# Altium integrated library Linear Technology Operational Amplifiers (LT2000-LT6000).IntLib: 1710 symbols (part 42 of 75)
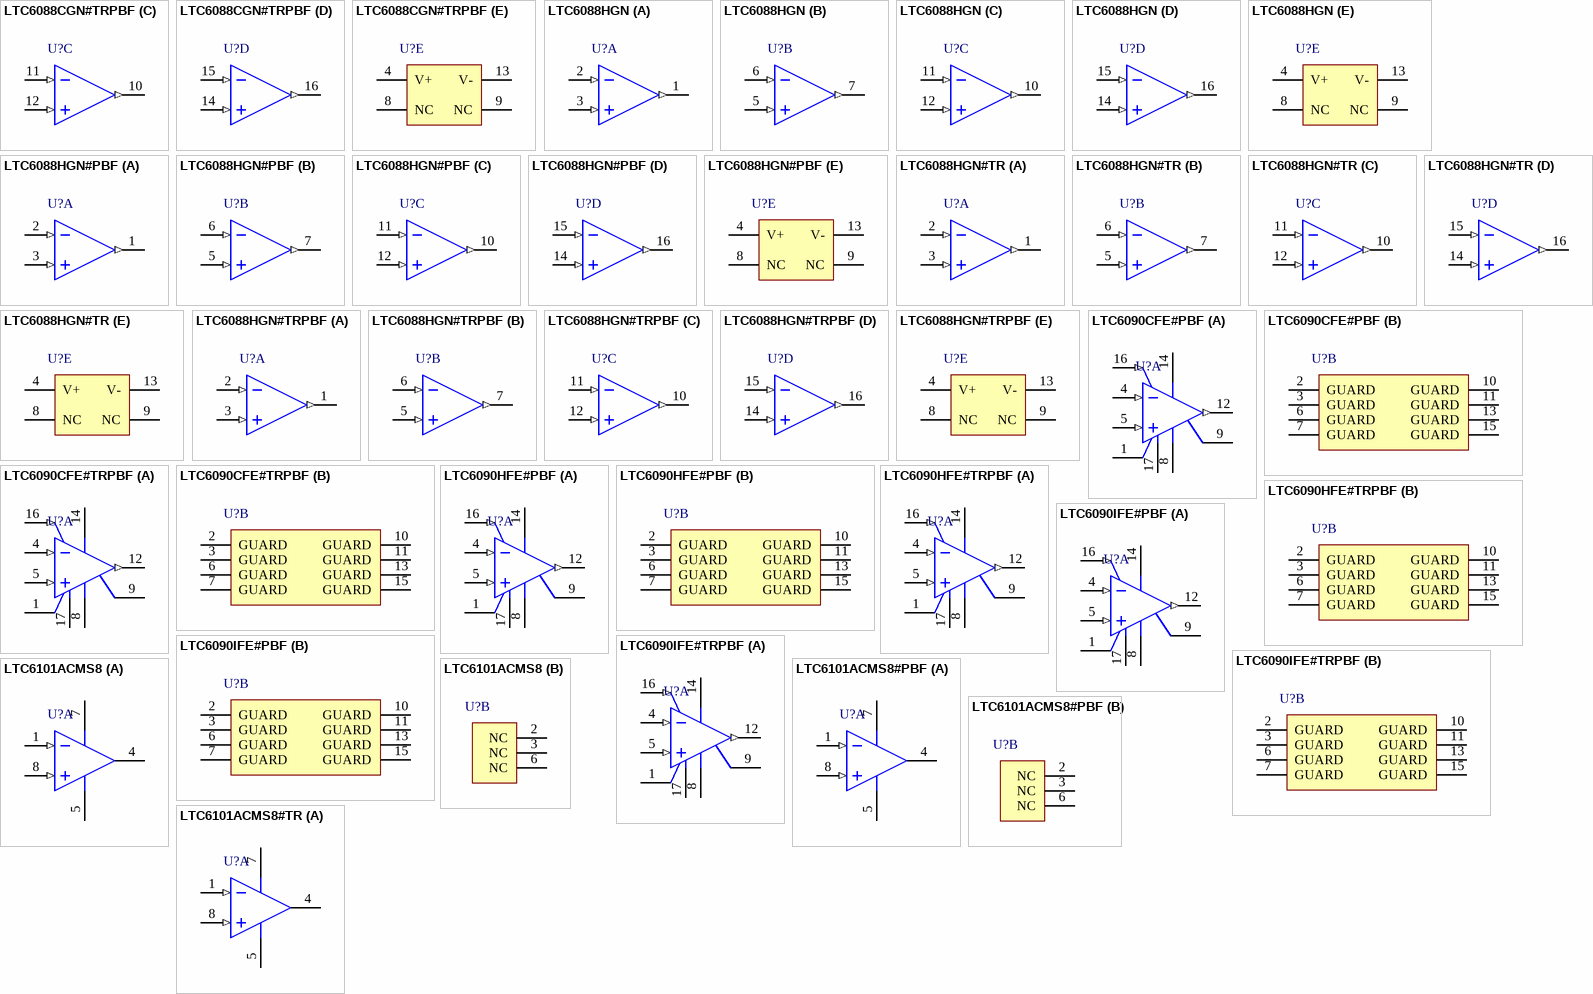
[diagram p121: symbols LTC6088CGN#TRPBF to LTC6101ACMS8#TR]

## LTC6090IFE#TRPBF
designator U?
Single Channel, Picoamp Input Current, CMOS Operational Amplifier, RRO, 10 MHz Typical GBW, 19 V/us Typical SR, 9.5 to 140 V, 16-Pin SOP (FE-16), Industrial, Pb-Free, Reel; Linear Technology Part Number: LTC6090; Manufacturer: Linear Technology; PartNumber: LTC6090IFE#TRPBF; PackageVersion: Rev I; PackageReference: LT-FE-16-EPV-BA; PackageDescription: 16-Lead Plastic TSSOP, Body 5.00 x 4.40 mm, Pitch 0.65 mm; Supplier 1: Digi-Key; Supplier Part Number 1: LTC6090IFE#TRPBF-ND; Supplier 2: Newark; Supplier Part Number 2: 48W6438; Packing: Reel; RoHS: Pb-Free; Mounting Technology: Surface Mount; ComponentLink1Description: Manufacturer URL; ComponentLink1URL: http://www.linear.com/; ComponentLink2Description: Datasheet; ComponentLink2URL: http://cds.linear.com/docs/en/datasheet/6090f.pdf; ComponentLink3Description: Package Specification; ComponentLink3URL: http://cds.linear.com/docs/en/packaging/05081663_I_FE16%28BA%29.pdf
footprint LT-FE-16-EPV-BA_N (SOP, 16-Leads, Body 5x4.4mm, Pitch 0.65mm, Thermal Pad 2.74x2.74mm, IPC Medium Density)
footprint LT-FE-16-EPV-BA_L (SOP, 16-Leads, Body 5x4.4mm, Pitch 0.65mm, Thermal Pad 2.74x2.74mm, IPC High Density)
footprint LT-FE-16-EPV-BA_M (SOP, 16-Leads, Body 5x4.4mm, Pitch 0.65mm, Thermal Pad 2.74x2.74mm, IPC Low Density)
part A pins: 1 COM "COM Pin is used to interface O\D\ and T\F\L\A\G\ pins to voltage control circuits. Tie this pin to the low voltage ground, or let it float.", 4 -IN (in) "Inverting Input Pin. Input common mode range is V- + 3V to V+ - 3V. Do not exceed absolute maximum voltage range.", 5 +IN (in) "Noninverting Input Pin. Input common mode range is V- + 3V to V+ - 3V. Do not exceed absolute maximum voltage range.", 8 V- (power) "Negative Supply Pin. Connect to V- Only. To achieve low thermal resistance connect this pin to the V- power plane. The V- power plane connection removes heat from the device and should be electrically isolated from all other (See Datasheet)", 9 ~{TFLAG} (oc) "Temperature Flag Pin. The T\F\L\A\G\ pin is an open drain output that sinks current when the die temperature exceeds 145 degreesC.", 12 OUT (out) "Output Pin. If this rail-to-rail output goes below V- , the ESD protection diode will forward bias. If OUT goes above V+, then output device diodes will forward bias. Avoid forward biasing the diodes on the OUT pin. (See Datasheet)", 14 V+ (power) "Positive Supply Pin.", 16 ~{OD} (in) "Output Disable Pin. Active low input disables the output stage. If left open, an internal pull-up resistor enables the amplifier. Input voltage levels are referred to the COM pin.", 17 EP (power) "Exposed Pad ground."
part B pins: 2 GUARD "Guard pins increase clearance and creepage between other pins. Pins 3 and 6 can be used to build guard rings around the inputs", 3 GUARD "Guard pins increase clearance and creepage between other pins. Pins 3 and 6 can be used to build guard rings around the inputs", 6 GUARD "Guard pins increase clearance and creepage between other pins. Pins 3 and 6 can be used to build guard rings around the inputs", 7 GUARD "Guard pins increase clearance and creepage between other pins. Pins 3 and 6 can be used to build guard rings around the inputs", 10 GUARD "Guard pins increase clearance and creepage between other pins. Pins 3 and 6 can be used to build guard rings around the inputs", 11 GUARD "Guard pins increase clearance and creepage between other pins. Pins 3 and 6 can be used to build guard rings around the inputs", 13 GUARD "Guard pins increase clearance and creepage between other pins. Pins 3 and 6 can be used to build guard rings around the inputs", 15 GUARD "Guard pins increase clearance and creepage between other pins. Pins 3 and 6 can be used to build guard rings around the inputs"

## LTC6101ACMS8
designator U?
Single Channel, High Voltage, High-Side Current Sense Operational Amplifier, 0.2 MHz Typical GBW, 4 to 60 V, 8-Pin SOP (MS8-8), Commercial; Linear Technology Part Number: LTC6101; Manufacturer: Linear Technology; PartNumber: LTC6101ACMS8; Channels (#): 1; GBW (MHz) Typical: 0.2; Is (mA) Typical: 0.22; Vos (mV) Typical: 0.15; Vs Max (V): 60; Vs Min (V): 4; DatasheetVersion: Rev. H; PackageVersion: Rev G; PackageReference: LT-MS8-8; PackageDescription: 8-Lead Plastic Small Outline, Body 3.9 x 4.9 mm, Pitch 1.27 mm; Type: CSA; Mounting Technology: Surface Mount; ComponentLink1Description: Manufacturer URL; ComponentLink1URL: http://www.linear.com/; ComponentLink2Description: Datasheet; ComponentLink2URL: http://cds.linear.com/docs/en/datasheet/6101fh.pdf; ComponentLink3Description: Package Specification; ComponentLink3URL: http://cds.linear.com/docs/en/packaging/05081610_G_SO8.pdf
footprint LT-MS8-8_N (SOP, 8-Leads, Body 3x3mm, Pitch 0.65mm, IPC Medium Density)
footprint LT-MS8-8_L (SOP, 8-Leads, Body 3x3mm, Pitch 0.65mm, IPC High Density)
footprint LT-MS8-8_M (SOP, 8-Leads, Body 3x3mm, Pitch 0.65mm, IPC Low Density)
part A pins: 1 -IN (in) "The internal sense ampli?er will drive IN- to the same  potential as IN+. A resistor (RIN) tied from V+ to IN- sets  the output current IOUT = VSENSE/RIN. VSENSE is the voltage  developed across the external RSENSE.", 4 OUT (oe) "Current Output. OUT will source a current that is  proportional to the sense voltage into an external resistor.", 5 V- (power) "Negative Supply (or Ground for Single-Supply  Operation).", 7 V+ (power) "Positive Supply Pin. Supply current is drawn through  this pin.  The circuit may be con? gured so that the  LTC6101 supply current is or is not monitored along  with the system load current. To monitor only system load (See Datasheet)", 8 +IN (in) "Must be tied to the system load end of the sense  resistor, either directly or through a resistor."
part B pins: 2 NC, 3 NC, 6 NC

## LTC6101ACMS8#PBF
designator U?
Single Channel, High Voltage, High-Side Current Sense Operational Amplifier, 0.2 MHz Typical GBW, 4 to 60 V, 8-Pin SOP (MS8-8), Commercial, Pb-Free; Linear Technology Part Number: LTC6101; Manufacturer: Linear Technology; PartNumber: LTC6101ACMS8#PBF; Channels (#): 1; GBW (MHz) Typical: 0.2; Is (mA) Typical: 0.22; Vos (mV) Typical: 0.15; Vs Max (V): 60; Vs Min (V): 4; DatasheetVersion: Rev. H; PackageVersion: Rev G; PackageReference: LT-MS8-8; PackageDescription: 8-Lead Plastic Small Outline, Body 3.9 x 4.9 mm, Pitch 1.27 mm; Supplier 1: Digi-Key; Supplier Part Number 1: LTC6101ACMS8#PBF-ND; RoHS: Pb-Free; Type: CSA; Mounting Technology: Surface Mount; ComponentLink1Description: Manufacturer URL; ComponentLink1URL: http://www.linear.com/; ComponentLink2Description: Datasheet; ComponentLink2URL: http://cds.linear.com/docs/en/datasheet/6101fh.pdf; ComponentLink3Description: Package Specification; ComponentLink3URL: http://cds.linear.com/docs/en/packaging/05081610_G_SO8.pdf
footprint LT-MS8-8_N (SOP, 8-Leads, Body 3x3mm, Pitch 0.65mm, IPC Medium Density)
footprint LT-MS8-8_L (SOP, 8-Leads, Body 3x3mm, Pitch 0.65mm, IPC High Density)
footprint LT-MS8-8_M (SOP, 8-Leads, Body 3x3mm, Pitch 0.65mm, IPC Low Density)
part A pins: 1 -IN (in) "The internal sense ampli?er will drive IN- to the same  potential as IN+. A resistor (RIN) tied from V+ to IN- sets  the output current IOUT = VSENSE/RIN. VSENSE is the voltage  developed across the external RSENSE.", 4 OUT (oe) "Current Output. OUT will source a current that is  proportional to the sense voltage into an external resistor.", 5 V- (power) "Negative Supply (or Ground for Single-Supply  Operation).", 7 V+ (power) "Positive Supply Pin. Supply current is drawn through  this pin.  The circuit may be con? gured so that the  LTC6101 supply current is or is not monitored along  with the system load current. To monitor only system load (See Datasheet)", 8 +IN (in) "Must be tied to the system load end of the sense  resistor, either directly or through a resistor."
part B pins: 2 NC, 3 NC, 6 NC

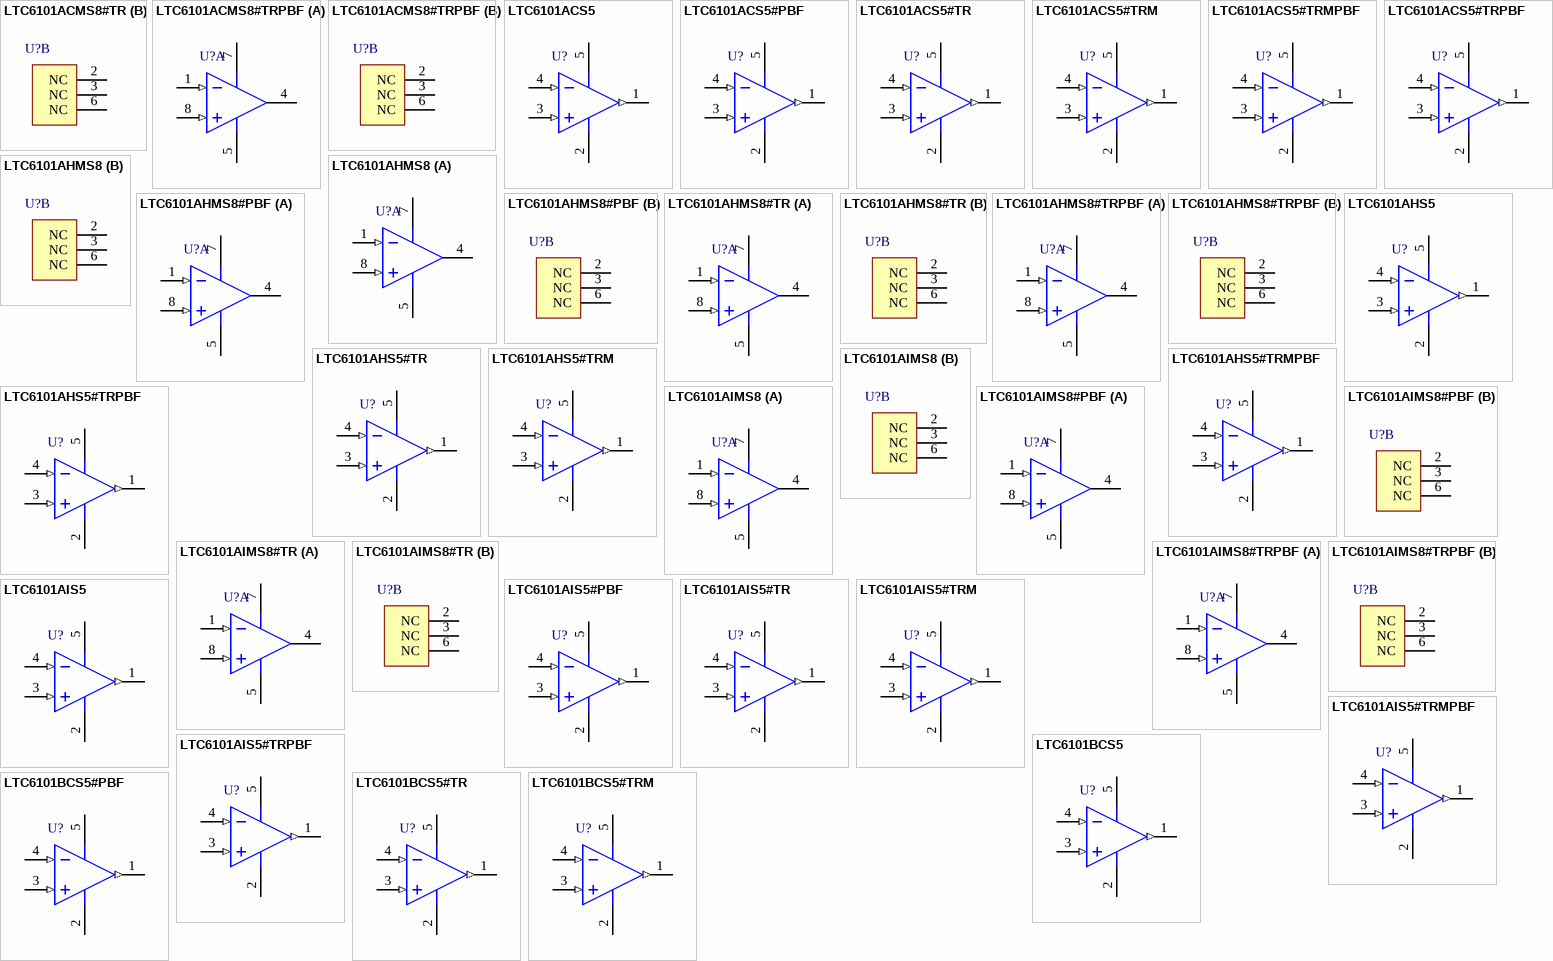
[diagram p57: symbols LTC6101ACMS8#TR to LTC6101BCS5#TRM]

## LTC6101ACMS8#TR
designator U?
Single Channel, High Voltage, High-Side Current Sense Operational Amplifier, 0.2 MHz Typical GBW, 4 to 60 V, 8-Pin SOP (MS8-8), Commercial, Reel; Linear Technology Part Number: LTC6101; Manufacturer: Linear Technology; PartNumber: LTC6101ACMS8#TR; Channels (#): 1; GBW (MHz) Typical: 0.2; Is (mA) Typical: 0.22; Vos (mV) Typical: 0.15; Vs Max (V): 60; Vs Min (V): 4; DatasheetVersion: Rev. H; PackageVersion: Rev G; PackageReference: LT-MS8-8; PackageDescription: 8-Lead Plastic Small Outline, Body 3.9 x 4.9 mm, Pitch 1.27 mm; Packing: Reel; Type: CSA; Mounting Technology: Surface Mount; ComponentLink1Description: Manufacturer URL; ComponentLink1URL: http://www.linear.com/; ComponentLink2Description: Datasheet; ComponentLink2URL: http://cds.linear.com/docs/en/datasheet/6101fh.pdf; ComponentLink3Description: Package Specification; ComponentLink3URL: http://cds.linear.com/docs/en/packaging/05081610_G_SO8.pdf
footprint LT-MS8-8_N (SOP, 8-Leads, Body 3x3mm, Pitch 0.65mm, IPC Medium Density)
footprint LT-MS8-8_L (SOP, 8-Leads, Body 3x3mm, Pitch 0.65mm, IPC High Density)
footprint LT-MS8-8_M (SOP, 8-Leads, Body 3x3mm, Pitch 0.65mm, IPC Low Density)
part A pins: 1 -IN (in) "The internal sense ampli?er will drive IN- to the same  potential as IN+. A resistor (RIN) tied from V+ to IN- sets  the output current IOUT = VSENSE/RIN. VSENSE is the voltage  developed across the external RSENSE.", 4 OUT (oe) "Current Output. OUT will source a current that is  proportional to the sense voltage into an external resistor.", 5 V- (power) "Negative Supply (or Ground for Single-Supply  Operation).", 7 V+ (power) "Positive Supply Pin. Supply current is drawn through  this pin.  The circuit may be con? gured so that the  LTC6101 supply current is or is not monitored along  with the system load current. To monitor only system load (See Datasheet)", 8 +IN (in) "Must be tied to the system load end of the sense  resistor, either directly or through a resistor."
part B pins: 2 NC, 3 NC, 6 NC

## LTC6101ACMS8#TRPBF
designator U?
Single Channel, High Voltage, High-Side Current Sense Operational Amplifier, 0.2 MHz Typical GBW, 4 to 60 V, 8-Pin SOP (MS8-8), Commercial, Pb-Free, Reel; Linear Technology Part Number: LTC6101; Manufacturer: Linear Technology; PartNumber: LTC6101ACMS8#TRPBF; Channels (#): 1; GBW (MHz) Typical: 0.2; Is (mA) Typical: 0.22; Vos (mV) Typical: 0.15; Vs Max (V): 60; Vs Min (V): 4; DatasheetVersion: Rev. H; PackageVersion: Rev G; PackageReference: LT-MS8-8; PackageDescription: 8-Lead Plastic Small Outline, Body 3.9 x 4.9 mm, Pitch 1.27 mm; Supplier 1: Digi-Key; Supplier Part Number 1: LTC6101ACMS8#TRPBF-ND; Packing: Reel; RoHS: Pb-Free; Type: CSA; Mounting Technology: Surface Mount; ComponentLink1Description: Manufacturer URL; ComponentLink1URL: http://www.linear.com/; ComponentLink2Description: Datasheet; ComponentLink2URL: http://cds.linear.com/docs/en/datasheet/6101fh.pdf; ComponentLink3Description: Package Specification; ComponentLink3URL: http://cds.linear.com/docs/en/packaging/05081610_G_SO8.pdf
footprint LT-MS8-8_N (SOP, 8-Leads, Body 3x3mm, Pitch 0.65mm, IPC Medium Density)
footprint LT-MS8-8_L (SOP, 8-Leads, Body 3x3mm, Pitch 0.65mm, IPC High Density)
footprint LT-MS8-8_M (SOP, 8-Leads, Body 3x3mm, Pitch 0.65mm, IPC Low Density)
part A pins: 1 -IN (in) "The internal sense ampli?er will drive IN- to the same  potential as IN+. A resistor (RIN) tied from V+ to IN- sets  the output current IOUT = VSENSE/RIN. VSENSE is the voltage  developed across the external RSENSE.", 4 OUT (oe) "Current Output. OUT will source a current that is  proportional to the sense voltage into an external resistor.", 5 V- (power) "Negative Supply (or Ground for Single-Supply  Operation).", 7 V+ (power) "Positive Supply Pin. Supply current is drawn through  this pin.  The circuit may be con? gured so that the  LTC6101 supply current is or is not monitored along  with the system load current. To monitor only system load (See Datasheet)", 8 +IN (in) "Must be tied to the system load end of the sense  resistor, either directly or through a resistor."
part B pins: 2 NC, 3 NC, 6 NC

## LTC6101ACS5
designator U?
Single Channel, High Voltage, High-Side Current Sense Operational Amplifier, 0.2 MHz Typical GBW, 4 to 60 V, 5-Pin SOT23 (S5-5), Commercial; Linear Technology Part Number: LTC6101; Manufacturer: Linear Technology; PartNumber: LTC6101ACS5; Channels (#): 1; GBW (MHz) Typical: 0.2; Is (mA) Typical: 0.22; Vos (mV) Typical: 0.15; Vs Max (V): 60; Vs Min (V): 4; DatasheetVersion: Rev. H; PackageReference: LT-S5-5-TSOT-23; PackageDescription: 5-Lead Plastic TSOT-23, Body 1.63 x 2.90 mm, Pitch 0.95 mm; Type: CSA; Mounting Technology: Surface Mount; Code_JEDEC: MO-193; ComponentLink1Description: Manufacturer URL; ComponentLink1URL: http://www.linear.com/; ComponentLink2Description: Datasheet; ComponentLink2URL: http://cds.linear.com/docs/en/datasheet/6101fh.pdf; ComponentLink3Description: Package Specification; ComponentLink3URL: http://cds.linear.com/docs/en/packaging/SOT_5_05-08-1635.pdf
footprint LT-S5-5-TSOT-23_N (SOT23, 5-Leads, Body 2.90x1.63mm, Pitch 0.95mm, IPC Medium Density)
footprint LT-S5-5-TSOT-23_L (SOT23, 5-Leads, Body 2.90x1.63mm, Pitch 0.95mm, IPC High Density)
footprint LT-S5-5-TSOT-23_M (SOT23, 5-Leads, Body 2.90x1.63mm, Pitch 0.95mm, IPC Low Density)
pins: 1 OUT (out) "Output.", 2 V- (power) "Negative Supply Voltage, Usually -5V.", 3 +IN (in) "Noninverting Input.", 4 -IN (in) "Inverting Input.", 5 V+ (power) "Positive Supply Voltage, Usually 5V."

## LTC6101ACS5#PBF
designator U?
Single Channel, High Voltage, High-Side Current Sense Operational Amplifier, 0.2 MHz Typical GBW, 4 to 60 V, 5-Pin SOT23 (S5-5), Commercial, Pb-Free; Linear Technology Part Number: LTC6101; Manufacturer: Linear Technology; PartNumber: LTC6101ACS5#PBF; Channels (#): 1; GBW (MHz) Typical: 0.2; Is (mA) Typical: 0.22; Vos (mV) Typical: 0.15; Vs Max (V): 60; Vs Min (V): 4; DatasheetVersion: Rev. H; PackageReference: LT-S5-5-TSOT-23; PackageDescription: 5-Lead Plastic TSOT-23, Body 1.63 x 2.90 mm, Pitch 0.95 mm; Supplier 1: Farnell; Supplier Part Number 1: 2294754; Supplier 2: Newark; Supplier Part Number 2: 12T9504; RoHS: Pb-Free; Type: CSA; Mounting Technology: Surface Mount; Code_JEDEC: MO-193; ComponentLink1Description: Manufacturer URL; ComponentLink1URL: http://www.linear.com/; ComponentLink2Description: Datasheet; ComponentLink2URL: http://cds.linear.com/docs/en/datasheet/6101fh.pdf; ComponentLink3Description: Package Specification; ComponentLink3URL: http://cds.linear.com/docs/en/packaging/SOT_5_05-08-1635.pdf
footprint LT-S5-5-TSOT-23_N (SOT23, 5-Leads, Body 2.90x1.63mm, Pitch 0.95mm, IPC Medium Density)
footprint LT-S5-5-TSOT-23_L (SOT23, 5-Leads, Body 2.90x1.63mm, Pitch 0.95mm, IPC High Density)
footprint LT-S5-5-TSOT-23_M (SOT23, 5-Leads, Body 2.90x1.63mm, Pitch 0.95mm, IPC Low Density)
pins: 1 OUT (out) "Output.", 2 V- (power) "Negative Supply Voltage, Usually -5V.", 3 +IN (in) "Noninverting Input.", 4 -IN (in) "Inverting Input.", 5 V+ (power) "Positive Supply Voltage, Usually 5V."

## LTC6101ACS5#TR
designator U?
Single Channel, High Voltage, High-Side Current Sense Operational Amplifier, 0.2 MHz Typical GBW, 4 to 60 V, 5-Pin SOT23 (S5-5), Commercial, Reel; Linear Technology Part Number: LTC6101; Manufacturer: Linear Technology; PartNumber: LTC6101ACS5#TR; Channels (#): 1; GBW (MHz) Typical: 0.2; Is (mA) Typical: 0.22; Vos (mV) Typical: 0.15; Vs Max (V): 60; Vs Min (V): 4; DatasheetVersion: Rev. H; PackageReference: LT-S5-5-TSOT-23; PackageDescription: 5-Lead Plastic TSOT-23, Body 1.63 x 2.90 mm, Pitch 0.95 mm; Supplier 1: Newark; Supplier Part Number 1: 56M9838; Packing: Reel; Type: CSA; Mounting Technology: Surface Mount; Code_JEDEC: MO-193; ComponentLink1Description: Manufacturer URL; ComponentLink1URL: http://www.linear.com/; ComponentLink2Description: Datasheet; ComponentLink2URL: http://cds.linear.com/docs/en/datasheet/6101fh.pdf; ComponentLink3Description: Package Specification; ComponentLink3URL: http://cds.linear.com/docs/en/packaging/SOT_5_05-08-1635.pdf
footprint LT-S5-5-TSOT-23_N (SOT23, 5-Leads, Body 2.90x1.63mm, Pitch 0.95mm, IPC Medium Density)
footprint LT-S5-5-TSOT-23_L (SOT23, 5-Leads, Body 2.90x1.63mm, Pitch 0.95mm, IPC High Density)
footprint LT-S5-5-TSOT-23_M (SOT23, 5-Leads, Body 2.90x1.63mm, Pitch 0.95mm, IPC Low Density)
pins: 1 OUT (out) "Output.", 2 V- (power) "Negative Supply Voltage, Usually -5V.", 3 +IN (in) "Noninverting Input.", 4 -IN (in) "Inverting Input.", 5 V+ (power) "Positive Supply Voltage, Usually 5V."

## LTC6101ACS5#TRM
designator U?
Single Channel, High Voltage, High-Side Current Sense Operational Amplifier, 0.2 MHz Typical GBW, 4 to 60 V, 5-Pin SOT23 (S5-5), Commercial, Mini Reel; Linear Technology Part Number: LTC6101; Manufacturer: Linear Technology; PartNumber: LTC6101ACS5#TRM; Channels (#): 1; GBW (MHz) Typical: 0.2; Is (mA) Typical: 0.22; Vos (mV) Typical: 0.15; Vs Max (V): 60; Vs Min (V): 4; DatasheetVersion: Rev. H; PackageReference: LT-S5-5-TSOT-23; PackageDescription: 5-Lead Plastic TSOT-23, Body 1.63 x 2.90 mm, Pitch 0.95 mm; Packing: Mini Reel; Type: CSA; Mounting Technology: Surface Mount; Code_JEDEC: MO-193; ComponentLink1Description: Manufacturer URL; ComponentLink1URL: http://www.linear.com/; ComponentLink2Description: Datasheet; ComponentLink2URL: http://cds.linear.com/docs/en/datasheet/6101fh.pdf; ComponentLink3Description: Package Specification; ComponentLink3URL: http://cds.linear.com/docs/en/packaging/SOT_5_05-08-1635.pdf
footprint LT-S5-5-TSOT-23_N (SOT23, 5-Leads, Body 2.90x1.63mm, Pitch 0.95mm, IPC Medium Density)
footprint LT-S5-5-TSOT-23_L (SOT23, 5-Leads, Body 2.90x1.63mm, Pitch 0.95mm, IPC High Density)
footprint LT-S5-5-TSOT-23_M (SOT23, 5-Leads, Body 2.90x1.63mm, Pitch 0.95mm, IPC Low Density)
pins: 1 OUT (out) "Output.", 2 V- (power) "Negative Supply Voltage, Usually -5V.", 3 +IN (in) "Noninverting Input.", 4 -IN (in) "Inverting Input.", 5 V+ (power) "Positive Supply Voltage, Usually 5V."

## LTC6101ACS5#TRMPBF
designator U?
Single Channel, High Voltage, High-Side Current Sense Operational Amplifier, 0.2 MHz Typical GBW, 4 to 60 V, 5-Pin SOT23 (S5-5), Commercial, Pb-Free, Mini Reel; Linear Technology Part Number: LTC6101; Manufacturer: Linear Technology; PartNumber: LTC6101ACS5#TRMPBF; Channels (#): 1; GBW (MHz) Typical: 0.2; Is (mA) Typical: 0.22; Vos (mV) Typical: 0.15; Vs Max (V): 60; Vs Min (V): 4; DatasheetVersion: Rev. H; PackageReference: LT-S5-5-TSOT-23; PackageDescription: 5-Lead Plastic TSOT-23, Body 1.63 x 2.90 mm, Pitch 0.95 mm; Supplier 1: Digi-Key; Supplier Part Number 1: LTC6101ACS5#TRMPBF-ND; Supplier 2: Newark; Supplier Part Number 2: 56M9840; Packing: Mini Reel; RoHS: Pb-Free; Type: CSA; Mounting Technology: Surface Mount; Code_JEDEC: MO-193; ComponentLink1Description: Manufacturer URL; ComponentLink1URL: http://www.linear.com/; ComponentLink2Description: Datasheet; ComponentLink2URL: http://cds.linear.com/docs/en/datasheet/6101fh.pdf; ComponentLink3Description: Package Specification; ComponentLink3URL: http://cds.linear.com/docs/en/packaging/SOT_5_05-08-1635.pdf
footprint LT-S5-5-TSOT-23_N (SOT23, 5-Leads, Body 2.90x1.63mm, Pitch 0.95mm, IPC Medium Density)
footprint LT-S5-5-TSOT-23_L (SOT23, 5-Leads, Body 2.90x1.63mm, Pitch 0.95mm, IPC High Density)
footprint LT-S5-5-TSOT-23_M (SOT23, 5-Leads, Body 2.90x1.63mm, Pitch 0.95mm, IPC Low Density)
pins: 1 OUT (out) "Output.", 2 V- (power) "Negative Supply Voltage, Usually -5V.", 3 +IN (in) "Noninverting Input.", 4 -IN (in) "Inverting Input.", 5 V+ (power) "Positive Supply Voltage, Usually 5V."

## LTC6101ACS5#TRPBF
designator U?
Single Channel, High Voltage, High-Side Current Sense Operational Amplifier, 0.2 MHz Typical GBW, 4 to 60 V, 5-Pin SOT23 (S5-5), Commercial, Pb-Free, Reel; Linear Technology Part Number: LTC6101; Manufacturer: Linear Technology; PartNumber: LTC6101ACS5#TRPBF; Channels (#): 1; GBW (MHz) Typical: 0.2; Is (mA) Typical: 0.22; Vos (mV) Typical: 0.15; Vs Max (V): 60; Vs Min (V): 4; DatasheetVersion: Rev. H; PackageReference: LT-S5-5-TSOT-23; PackageDescription: 5-Lead Plastic TSOT-23, Body 1.63 x 2.90 mm, Pitch 0.95 mm; Supplier 1: Digi-Key; Supplier Part Number 1: LTC6101ACS5#TRPBF-ND; Supplier 2: Newark; Supplier Part Number 2: 56M9841; Packing: Reel; RoHS: Pb-Free; Type: CSA; Mounting Technology: Surface Mount; Code_JEDEC: MO-193; ComponentLink1Description: Manufacturer URL; ComponentLink1URL: http://www.linear.com/; ComponentLink2Description: Datasheet; ComponentLink2URL: http://cds.linear.com/docs/en/datasheet/6101fh.pdf; ComponentLink3Description: Package Specification; ComponentLink3URL: http://cds.linear.com/docs/en/packaging/SOT_5_05-08-1635.pdf
footprint LT-S5-5-TSOT-23_N (SOT23, 5-Leads, Body 2.90x1.63mm, Pitch 0.95mm, IPC Medium Density)
footprint LT-S5-5-TSOT-23_L (SOT23, 5-Leads, Body 2.90x1.63mm, Pitch 0.95mm, IPC High Density)
footprint LT-S5-5-TSOT-23_M (SOT23, 5-Leads, Body 2.90x1.63mm, Pitch 0.95mm, IPC Low Density)
pins: 1 OUT (out) "Output.", 2 V- (power) "Negative Supply Voltage, Usually -5V.", 3 +IN (in) "Noninverting Input.", 4 -IN (in) "Inverting Input.", 5 V+ (power) "Positive Supply Voltage, Usually 5V."

## LTC6101AHMS8
designator U?
Single Channel, High Voltage, High-Side Current Sense Operational Amplifier, 0.2 MHz Typical GBW, 4 to 60 V, 8-Pin SOP (MS8-8), High Temperature / Automotive; Linear Technology Part Number: LTC6101; Manufacturer: Linear Technology; PartNumber: LTC6101AHMS8; Channels (#): 1; GBW (MHz) Typical: 0.2; Is (mA) Typical: 0.22; Vos (mV) Typical: 0.15; Vs Max (V): 60; Vs Min (V): 4; DatasheetVersion: Rev. H; PackageVersion: Rev G; PackageReference: LT-MS8-8; PackageDescription: 8-Lead Plastic Small Outline, Body 3.9 x 4.9 mm, Pitch 1.27 mm; Type: CSA; Mounting Technology: Surface Mount; ComponentLink1Description: Manufacturer URL; ComponentLink1URL: http://www.linear.com/; ComponentLink2Description: Datasheet; ComponentLink2URL: http://cds.linear.com/docs/en/datasheet/6101fh.pdf; ComponentLink3Description: Package Specification; ComponentLink3URL: http://cds.linear.com/docs/en/packaging/05081610_G_SO8.pdf
footprint LT-MS8-8_N (SOP, 8-Leads, Body 3x3mm, Pitch 0.65mm, IPC Medium Density)
footprint LT-MS8-8_L (SOP, 8-Leads, Body 3x3mm, Pitch 0.65mm, IPC High Density)
footprint LT-MS8-8_M (SOP, 8-Leads, Body 3x3mm, Pitch 0.65mm, IPC Low Density)
part A pins: 1 -IN (in) "The internal sense ampli?er will drive IN- to the same  potential as IN+. A resistor (RIN) tied from V+ to IN- sets  the output current IOUT = VSENSE/RIN. VSENSE is the voltage  developed across the external RSENSE.", 4 OUT (oe) "Current Output. OUT will source a current that is  proportional to the sense voltage into an external resistor.", 5 V- (power) "Negative Supply (or Ground for Single-Supply  Operation).", 7 V+ (power) "Positive Supply Pin. Supply current is drawn through  this pin.  The circuit may be con? gured so that the  LTC6101 supply current is or is not monitored along  with the system load current. To monitor only system load (See Datasheet)", 8 +IN (in) "Must be tied to the system load end of the sense  resistor, either directly or through a resistor."
part B pins: 2 NC, 3 NC, 6 NC

## LTC6101AHMS8#PBF
designator U?
Single Channel, High Voltage, High-Side Current Sense Operational Amplifier, 0.2 MHz Typical GBW, 4 to 60 V, 8-Pin SOP (MS8-8), High Temperature / Automotive, Pb-Free; Linear Technology Part Number: LTC6101; Manufacturer: Linear Technology; PartNumber: LTC6101AHMS8#PBF; Channels (#): 1; GBW (MHz) Typical: 0.2; Is (mA) Typical: 0.22; Vos (mV) Typical: 0.15; Vs Max (V): 60; Vs Min (V): 4; DatasheetVersion: Rev. H; PackageVersion: Rev G; PackageReference: LT-MS8-8; PackageDescription: 8-Lead Plastic Small Outline, Body 3.9 x 4.9 mm, Pitch 1.27 mm; Supplier 1: Digi-Key; Supplier Part Number 1: LTC6101AHMS8#PBF-ND; RoHS: Pb-Free; Type: CSA; Mounting Technology: Surface Mount; ComponentLink1Description: Manufacturer URL; ComponentLink1URL: http://www.linear.com/; ComponentLink2Description: Datasheet; ComponentLink2URL: http://cds.linear.com/docs/en/datasheet/6101fh.pdf; ComponentLink3Description: Package Specification; ComponentLink3URL: http://cds.linear.com/docs/en/packaging/05081610_G_SO8.pdf
footprint LT-MS8-8_N (SOP, 8-Leads, Body 3x3mm, Pitch 0.65mm, IPC Medium Density)
footprint LT-MS8-8_L (SOP, 8-Leads, Body 3x3mm, Pitch 0.65mm, IPC High Density)
footprint LT-MS8-8_M (SOP, 8-Leads, Body 3x3mm, Pitch 0.65mm, IPC Low Density)
part A pins: 1 -IN (in) "The internal sense ampli?er will drive IN- to the same  potential as IN+. A resistor (RIN) tied from V+ to IN- sets  the output current IOUT = VSENSE/RIN. VSENSE is the voltage  developed across the external RSENSE.", 4 OUT (oe) "Current Output. OUT will source a current that is  proportional to the sense voltage into an external resistor.", 5 V- (power) "Negative Supply (or Ground for Single-Supply  Operation).", 7 V+ (power) "Positive Supply Pin. Supply current is drawn through  this pin.  The circuit may be con? gured so that the  LTC6101 supply current is or is not monitored along  with the system load current. To monitor only system load (See Datasheet)", 8 +IN (in) "Must be tied to the system load end of the sense  resistor, either directly or through a resistor."
part B pins: 2 NC, 3 NC, 6 NC

## LTC6101AHMS8#TR
designator U?
Single Channel, High Voltage, High-Side Current Sense Operational Amplifier, 0.2 MHz Typical GBW, 4 to 60 V, 8-Pin SOP (MS8-8), High Temperature / Automotive, Reel; Linear Technology Part Number: LTC6101; Manufacturer: Linear Technology; PartNumber: LTC6101AHMS8#TR; Channels (#): 1; GBW (MHz) Typical: 0.2; Is (mA) Typical: 0.22; Vos (mV) Typical: 0.15; Vs Max (V): 60; Vs Min (V): 4; DatasheetVersion: Rev. H; PackageVersion: Rev G; PackageReference: LT-MS8-8; PackageDescription: 8-Lead Plastic Small Outline, Body 3.9 x 4.9 mm, Pitch 1.27 mm; Packing: Reel; Type: CSA; Mounting Technology: Surface Mount; ComponentLink1Description: Manufacturer URL; ComponentLink1URL: http://www.linear.com/; ComponentLink2Description: Datasheet; ComponentLink2URL: http://cds.linear.com/docs/en/datasheet/6101fh.pdf; ComponentLink3Description: Package Specification; ComponentLink3URL: http://cds.linear.com/docs/en/packaging/05081610_G_SO8.pdf
footprint LT-MS8-8_N (SOP, 8-Leads, Body 3x3mm, Pitch 0.65mm, IPC Medium Density)
footprint LT-MS8-8_L (SOP, 8-Leads, Body 3x3mm, Pitch 0.65mm, IPC High Density)
footprint LT-MS8-8_M (SOP, 8-Leads, Body 3x3mm, Pitch 0.65mm, IPC Low Density)
part A pins: 1 -IN (in) "The internal sense ampli?er will drive IN- to the same  potential as IN+. A resistor (RIN) tied from V+ to IN- sets  the output current IOUT = VSENSE/RIN. VSENSE is the voltage  developed across the external RSENSE.", 4 OUT (oe) "Current Output. OUT will source a current that is  proportional to the sense voltage into an external resistor.", 5 V- (power) "Negative Supply (or Ground for Single-Supply  Operation).", 7 V+ (power) "Positive Supply Pin. Supply current is drawn through  this pin.  The circuit may be con? gured so that the  LTC6101 supply current is or is not monitored along  with the system load current. To monitor only system load (See Datasheet)", 8 +IN (in) "Must be tied to the system load end of the sense  resistor, either directly or through a resistor."
part B pins: 2 NC, 3 NC, 6 NC

## LTC6101AHMS8#TRPBF
designator U?
Single Channel, High Voltage, High-Side Current Sense Operational Amplifier, 0.2 MHz Typical GBW, 4 to 60 V, 8-Pin SOP (MS8-8), High Temperature / Automotive, Pb-Free, Reel; Linear Technology Part Number: LTC6101; Manufacturer: Linear Technology; PartNumber: LTC6101AHMS8#TRPBF; Channels (#): 1; GBW (MHz) Typical: 0.2; Is (mA) Typical: 0.22; Vos (mV) Typical: 0.15; Vs Max (V): 60; Vs Min (V): 4; DatasheetVersion: Rev. H; PackageVersion: Rev G; PackageReference: LT-MS8-8; PackageDescription: 8-Lead Plastic Small Outline, Body 3.9 x 4.9 mm, Pitch 1.27 mm; Supplier 1: Digi-Key; Supplier Part Number 1: LTC6101AHMS8#TRPBF-ND; Packing: Reel; RoHS: Pb-Free; Type: CSA; Mounting Technology: Surface Mount; ComponentLink1Description: Manufacturer URL; ComponentLink1URL: http://www.linear.com/; ComponentLink2Description: Datasheet; ComponentLink2URL: http://cds.linear.com/docs/en/datasheet/6101fh.pdf; ComponentLink3Description: Package Specification; ComponentLink3URL: http://cds.linear.com/docs/en/packaging/05081610_G_SO8.pdf
footprint LT-MS8-8_N (SOP, 8-Leads, Body 3x3mm, Pitch 0.65mm, IPC Medium Density)
footprint LT-MS8-8_L (SOP, 8-Leads, Body 3x3mm, Pitch 0.65mm, IPC High Density)
footprint LT-MS8-8_M (SOP, 8-Leads, Body 3x3mm, Pitch 0.65mm, IPC Low Density)
part A pins: 1 -IN (in) "The internal sense ampli?er will drive IN- to the same  potential as IN+. A resistor (RIN) tied from V+ to IN- sets  the output current IOUT = VSENSE/RIN. VSENSE is the voltage  developed across the external RSENSE.", 4 OUT (oe) "Current Output. OUT will source a current that is  proportional to the sense voltage into an external resistor.", 5 V- (power) "Negative Supply (or Ground for Single-Supply  Operation).", 7 V+ (power) "Positive Supply Pin. Supply current is drawn through  this pin.  The circuit may be con? gured so that the  LTC6101 supply current is or is not monitored along  with the system load current. To monitor only system load (See Datasheet)", 8 +IN (in) "Must be tied to the system load end of the sense  resistor, either directly or through a resistor."
part B pins: 2 NC, 3 NC, 6 NC

## LTC6101AHS5
designator U?
Single Channel, High Voltage, High-Side Current Sense Operational Amplifier, 0.2 MHz Typical GBW, 4 to 60 V, 5-Pin SOT23 (S5-5), High Temperature / Automotive; Linear Technology Part Number: LTC6101; Manufacturer: Linear Technology; PartNumber: LTC6101AHS5; Channels (#): 1; GBW (MHz) Typical: 0.2; Is (mA) Typical: 0.22; Vos (mV) Typical: 0.15; Vs Max (V): 60; Vs Min (V): 4; DatasheetVersion: Rev. H; PackageReference: LT-S5-5-TSOT-23; PackageDescription: 5-Lead Plastic TSOT-23, Body 1.63 x 2.90 mm, Pitch 0.95 mm; Type: CSA; Mounting Technology: Surface Mount; Code_JEDEC: MO-193; ComponentLink1Description: Manufacturer URL; ComponentLink1URL: http://www.linear.com/; ComponentLink2Description: Datasheet; ComponentLink2URL: http://cds.linear.com/docs/en/datasheet/6101fh.pdf; ComponentLink3Description: Package Specification; ComponentLink3URL: http://cds.linear.com/docs/en/packaging/SOT_5_05-08-1635.pdf
footprint LT-S5-5-TSOT-23_N (SOT23, 5-Leads, Body 2.90x1.63mm, Pitch 0.95mm, IPC Medium Density)
footprint LT-S5-5-TSOT-23_L (SOT23, 5-Leads, Body 2.90x1.63mm, Pitch 0.95mm, IPC High Density)
footprint LT-S5-5-TSOT-23_M (SOT23, 5-Leads, Body 2.90x1.63mm, Pitch 0.95mm, IPC Low Density)
pins: 1 OUT (out) "Output.", 2 V- (power) "Negative Supply Voltage, Usually -5V.", 3 +IN (in) "Noninverting Input.", 4 -IN (in) "Inverting Input.", 5 V+ (power) "Positive Supply Voltage, Usually 5V."

## LTC6101AHS5#TR
designator U?
Single Channel, High Voltage, High-Side Current Sense Operational Amplifier, 0.2 MHz Typical GBW, 4 to 60 V, 5-Pin SOT23 (S5-5), High Temperature / Automotive, Reel; Linear Technology Part Number: LTC6101; Manufacturer: Linear Technology; PartNumber: LTC6101AHS5#TR; Channels (#): 1; GBW (MHz) Typical: 0.2; Is (mA) Typical: 0.22; Vos (mV) Typical: 0.15; Vs Max (V): 60; Vs Min (V): 4; DatasheetVersion: Rev. H; PackageReference: LT-S5-5-TSOT-23; PackageDescription: 5-Lead Plastic TSOT-23, Body 1.63 x 2.90 mm, Pitch 0.95 mm; Supplier 1: Newark; Supplier Part Number 1: 56M9846; Packing: Reel; Type: CSA; Mounting Technology: Surface Mount; Code_JEDEC: MO-193; ComponentLink1Description: Manufacturer URL; ComponentLink1URL: http://www.linear.com/; ComponentLink2Description: Datasheet; ComponentLink2URL: http://cds.linear.com/docs/en/datasheet/6101fh.pdf; ComponentLink3Description: Package Specification; ComponentLink3URL: http://cds.linear.com/docs/en/packaging/SOT_5_05-08-1635.pdf
footprint LT-S5-5-TSOT-23_N (SOT23, 5-Leads, Body 2.90x1.63mm, Pitch 0.95mm, IPC Medium Density)
footprint LT-S5-5-TSOT-23_L (SOT23, 5-Leads, Body 2.90x1.63mm, Pitch 0.95mm, IPC High Density)
footprint LT-S5-5-TSOT-23_M (SOT23, 5-Leads, Body 2.90x1.63mm, Pitch 0.95mm, IPC Low Density)
pins: 1 OUT (out) "Output.", 2 V- (power) "Negative Supply Voltage, Usually -5V.", 3 +IN (in) "Noninverting Input.", 4 -IN (in) "Inverting Input.", 5 V+ (power) "Positive Supply Voltage, Usually 5V."

## LTC6101AHS5#TRM
designator U?
Single Channel, High Voltage, High-Side Current Sense Operational Amplifier, 0.2 MHz Typical GBW, 4 to 60 V, 5-Pin SOT23 (S5-5), High Temperature / Automotive, Mini Reel; Linear Technology Part Number: LTC6101; Manufacturer: Linear Technology; PartNumber: LTC6101AHS5#TRM; Channels (#): 1; GBW (MHz) Typical: 0.2; Is (mA) Typical: 0.22; Vos (mV) Typical: 0.15; Vs Max (V): 60; Vs Min (V): 4; DatasheetVersion: Rev. H; PackageReference: LT-S5-5-TSOT-23; PackageDescription: 5-Lead Plastic TSOT-23, Body 1.63 x 2.90 mm, Pitch 0.95 mm; Packing: Mini Reel; Type: CSA; Mounting Technology: Surface Mount; Code_JEDEC: MO-193; ComponentLink1Description: Manufacturer URL; ComponentLink1URL: http://www.linear.com/; ComponentLink2Description: Datasheet; ComponentLink2URL: http://cds.linear.com/docs/en/datasheet/6101fh.pdf; ComponentLink3Description: Package Specification; ComponentLink3URL: http://cds.linear.com/docs/en/packaging/SOT_5_05-08-1635.pdf
footprint LT-S5-5-TSOT-23_N (SOT23, 5-Leads, Body 2.90x1.63mm, Pitch 0.95mm, IPC Medium Density)
footprint LT-S5-5-TSOT-23_L (SOT23, 5-Leads, Body 2.90x1.63mm, Pitch 0.95mm, IPC High Density)
footprint LT-S5-5-TSOT-23_M (SOT23, 5-Leads, Body 2.90x1.63mm, Pitch 0.95mm, IPC Low Density)
pins: 1 OUT (out) "Output.", 2 V- (power) "Negative Supply Voltage, Usually -5V.", 3 +IN (in) "Noninverting Input.", 4 -IN (in) "Inverting Input.", 5 V+ (power) "Positive Supply Voltage, Usually 5V."

## LTC6101AHS5#TRMPBF
designator U?
Single Channel, High Voltage, High-Side Current Sense Operational Amplifier, 0.2 MHz Typical GBW, 4 to 60 V, 5-Pin SOT23 (S5-5), High Temperature / Automotive, Pb-Free, Mini Reel; Linear Technology Part Number: LTC6101; Manufacturer: Linear Technology; PartNumber: LTC6101AHS5#TRMPBF; Channels (#): 1; GBW (MHz) Typical: 0.2; Is (mA) Typical: 0.22; Vos (mV) Typical: 0.15; Vs Max (V): 60; Vs Min (V): 4; DatasheetVersion: Rev. H; PackageReference: LT-S5-5-TSOT-23; PackageDescription: 5-Lead Plastic TSOT-23, Body 1.63 x 2.90 mm, Pitch 0.95 mm; Supplier 1: Digi-Key; Supplier Part Number 1: LTC6101AHS5#TRMPBF-ND; Packing: Mini Reel; RoHS: Pb-Free; Type: CSA; Mounting Technology: Surface Mount; Code_JEDEC: MO-193; ComponentLink1Description: Manufacturer URL; ComponentLink1URL: http://www.linear.com/; ComponentLink2Description: Datasheet; ComponentLink2URL: http://cds.linear.com/docs/en/datasheet/6101fh.pdf; ComponentLink3Description: Package Specification; ComponentLink3URL: http://cds.linear.com/docs/en/packaging/SOT_5_05-08-1635.pdf
footprint LT-S5-5-TSOT-23_N (SOT23, 5-Leads, Body 2.90x1.63mm, Pitch 0.95mm, IPC Medium Density)
footprint LT-S5-5-TSOT-23_L (SOT23, 5-Leads, Body 2.90x1.63mm, Pitch 0.95mm, IPC High Density)
footprint LT-S5-5-TSOT-23_M (SOT23, 5-Leads, Body 2.90x1.63mm, Pitch 0.95mm, IPC Low Density)
pins: 1 OUT (out) "Output.", 2 V- (power) "Negative Supply Voltage, Usually -5V.", 3 +IN (in) "Noninverting Input.", 4 -IN (in) "Inverting Input.", 5 V+ (power) "Positive Supply Voltage, Usually 5V."

## LTC6101AHS5#TRPBF
designator U?
Single Channel, High Voltage, High-Side Current Sense Operational Amplifier, 0.2 MHz Typical GBW, 4 to 60 V, 5-Pin SOT23 (S5-5), High Temperature / Automotive, Pb-Free, Reel; Linear Technology Part Number: LTC6101; Manufacturer: Linear Technology; PartNumber: LTC6101AHS5#TRPBF; Channels (#): 1; GBW (MHz) Typical: 0.2; Is (mA) Typical: 0.22; Vos (mV) Typical: 0.15; Vs Max (V): 60; Vs Min (V): 4; DatasheetVersion: Rev. H; PackageReference: LT-S5-5-TSOT-23; PackageDescription: 5-Lead Plastic TSOT-23, Body 1.63 x 2.90 mm, Pitch 0.95 mm; Supplier 1: Digi-Key; Supplier Part Number 1: LTC6101AHS5#TRPBF-ND; Packing: Reel; RoHS: Pb-Free; Type: CSA; Mounting Technology: Surface Mount; Code_JEDEC: MO-193; ComponentLink1Description: Manufacturer URL; ComponentLink1URL: http://www.linear.com/; ComponentLink2Description: Datasheet; ComponentLink2URL: http://cds.linear.com/docs/en/datasheet/6101fh.pdf; ComponentLink3Description: Package Specification; ComponentLink3URL: http://cds.linear.com/docs/en/packaging/SOT_5_05-08-1635.pdf
footprint LT-S5-5-TSOT-23_N (SOT23, 5-Leads, Body 2.90x1.63mm, Pitch 0.95mm, IPC Medium Density)
footprint LT-S5-5-TSOT-23_L (SOT23, 5-Leads, Body 2.90x1.63mm, Pitch 0.95mm, IPC High Density)
footprint LT-S5-5-TSOT-23_M (SOT23, 5-Leads, Body 2.90x1.63mm, Pitch 0.95mm, IPC Low Density)
pins: 1 OUT (out) "Output.", 2 V- (power) "Negative Supply Voltage, Usually -5V.", 3 +IN (in) "Noninverting Input.", 4 -IN (in) "Inverting Input.", 5 V+ (power) "Positive Supply Voltage, Usually 5V."

## LTC6101AIMS8
designator U?
Single Channel, High Voltage, High-Side Current Sense Operational Amplifier, 0.2 MHz Typical GBW, 4 to 60 V, 8-Pin SOP (MS8-8), Industrial; Linear Technology Part Number: LTC6101; Manufacturer: Linear Technology; PartNumber: LTC6101AIMS8; Channels (#): 1; GBW (MHz) Typical: 0.2; Is (mA) Typical: 0.22; Vos (mV) Typical: 0.15; Vs Max (V): 60; Vs Min (V): 4; DatasheetVersion: Rev. H; PackageVersion: Rev G; PackageReference: LT-MS8-8; PackageDescription: 8-Lead Plastic Small Outline, Body 3.9 x 4.9 mm, Pitch 1.27 mm; Type: CSA; Mounting Technology: Surface Mount; ComponentLink1Description: Manufacturer URL; ComponentLink1URL: http://www.linear.com/; ComponentLink2Description: Datasheet; ComponentLink2URL: http://cds.linear.com/docs/en/datasheet/6101fh.pdf; ComponentLink3Description: Package Specification; ComponentLink3URL: http://cds.linear.com/docs/en/packaging/05081610_G_SO8.pdf
footprint LT-MS8-8_N (SOP, 8-Leads, Body 3x3mm, Pitch 0.65mm, IPC Medium Density)
footprint LT-MS8-8_L (SOP, 8-Leads, Body 3x3mm, Pitch 0.65mm, IPC High Density)
footprint LT-MS8-8_M (SOP, 8-Leads, Body 3x3mm, Pitch 0.65mm, IPC Low Density)
part A pins: 1 -IN (in) "The internal sense ampli?er will drive IN- to the same  potential as IN+. A resistor (RIN) tied from V+ to IN- sets  the output current IOUT = VSENSE/RIN. VSENSE is the voltage  developed across the external RSENSE.", 4 OUT (oe) "Current Output. OUT will source a current that is  proportional to the sense voltage into an external resistor.", 5 V- (power) "Negative Supply (or Ground for Single-Supply  Operation).", 7 V+ (power) "Positive Supply Pin. Supply current is drawn through  this pin.  The circuit may be con? gured so that the  LTC6101 supply current is or is not monitored along  with the system load current. To monitor only system load (See Datasheet)", 8 +IN (in) "Must be tied to the system load end of the sense  resistor, either directly or through a resistor."
part B pins: 2 NC, 3 NC, 6 NC

## LTC6101AIMS8#PBF
designator U?
Single Channel, High Voltage, High-Side Current Sense Operational Amplifier, 0.2 MHz Typical GBW, 4 to 60 V, 8-Pin SOP (MS8-8), Industrial, Pb-Free; Linear Technology Part Number: LTC6101; Manufacturer: Linear Technology; PartNumber: LTC6101AIMS8#PBF; Channels (#): 1; GBW (MHz) Typical: 0.2; Is (mA) Typical: 0.22; Vos (mV) Typical: 0.15; Vs Max (V): 60; Vs Min (V): 4; DatasheetVersion: Rev. H; PackageVersion: Rev G; PackageReference: LT-MS8-8; PackageDescription: 8-Lead Plastic Small Outline, Body 3.9 x 4.9 mm, Pitch 1.27 mm; Supplier 1: Digi-Key; Supplier Part Number 1: LTC6101AIMS8#PBF-ND; Supplier 2: Farnell; Supplier Part Number 2: 2294755; RoHS: Pb-Free; Type: CSA; Mounting Technology: Surface Mount; ComponentLink1Description: Manufacturer URL; ComponentLink1URL: http://www.linear.com/; ComponentLink2Description: Datasheet; ComponentLink2URL: http://cds.linear.com/docs/en/datasheet/6101fh.pdf; ComponentLink3Description: Package Specification; ComponentLink3URL: http://cds.linear.com/docs/en/packaging/05081610_G_SO8.pdf
footprint LT-MS8-8_N (SOP, 8-Leads, Body 3x3mm, Pitch 0.65mm, IPC Medium Density)
footprint LT-MS8-8_L (SOP, 8-Leads, Body 3x3mm, Pitch 0.65mm, IPC High Density)
footprint LT-MS8-8_M (SOP, 8-Leads, Body 3x3mm, Pitch 0.65mm, IPC Low Density)
part A pins: 1 -IN (in) "The internal sense ampli?er will drive IN- to the same  potential as IN+. A resistor (RIN) tied from V+ to IN- sets  the output current IOUT = VSENSE/RIN. VSENSE is the voltage  developed across the external RSENSE.", 4 OUT (oe) "Current Output. OUT will source a current that is  proportional to the sense voltage into an external resistor.", 5 V- (power) "Negative Supply (or Ground for Single-Supply  Operation).", 7 V+ (power) "Positive Supply Pin. Supply current is drawn through  this pin.  The circuit may be con? gured so that the  LTC6101 supply current is or is not monitored along  with the system load current. To monitor only system load (See Datasheet)", 8 +IN (in) "Must be tied to the system load end of the sense  resistor, either directly or through a resistor."
part B pins: 2 NC, 3 NC, 6 NC

## LTC6101AIMS8#TR
designator U?
Single Channel, High Voltage, High-Side Current Sense Operational Amplifier, 0.2 MHz Typical GBW, 4 to 60 V, 8-Pin SOP (MS8-8), Industrial, Reel; Linear Technology Part Number: LTC6101; Manufacturer: Linear Technology; PartNumber: LTC6101AIMS8#TR; Channels (#): 1; GBW (MHz) Typical: 0.2; Is (mA) Typical: 0.22; Vos (mV) Typical: 0.15; Vs Max (V): 60; Vs Min (V): 4; DatasheetVersion: Rev. H; PackageVersion: Rev G; PackageReference: LT-MS8-8; PackageDescription: 8-Lead Plastic Small Outline, Body 3.9 x 4.9 mm, Pitch 1.27 mm; Packing: Reel; Type: CSA; Mounting Technology: Surface Mount; ComponentLink1Description: Manufacturer URL; ComponentLink1URL: http://www.linear.com/; ComponentLink2Description: Datasheet; ComponentLink2URL: http://cds.linear.com/docs/en/datasheet/6101fh.pdf; ComponentLink3Description: Package Specification; ComponentLink3URL: http://cds.linear.com/docs/en/packaging/05081610_G_SO8.pdf
footprint LT-MS8-8_N (SOP, 8-Leads, Body 3x3mm, Pitch 0.65mm, IPC Medium Density)
footprint LT-MS8-8_L (SOP, 8-Leads, Body 3x3mm, Pitch 0.65mm, IPC High Density)
footprint LT-MS8-8_M (SOP, 8-Leads, Body 3x3mm, Pitch 0.65mm, IPC Low Density)
part A pins: 1 -IN (in) "The internal sense ampli?er will drive IN- to the same  potential as IN+. A resistor (RIN) tied from V+ to IN- sets  the output current IOUT = VSENSE/RIN. VSENSE is the voltage  developed across the external RSENSE.", 4 OUT (oe) "Current Output. OUT will source a current that is  proportional to the sense voltage into an external resistor.", 5 V- (power) "Negative Supply (or Ground for Single-Supply  Operation).", 7 V+ (power) "Positive Supply Pin. Supply current is drawn through  this pin.  The circuit may be con? gured so that the  LTC6101 supply current is or is not monitored along  with the system load current. To monitor only system load (See Datasheet)", 8 +IN (in) "Must be tied to the system load end of the sense  resistor, either directly or through a resistor."
part B pins: 2 NC, 3 NC, 6 NC

## LTC6101AIMS8#TRPBF
designator U?
Single Channel, High Voltage, High-Side Current Sense Operational Amplifier, 0.2 MHz Typical GBW, 4 to 60 V, 8-Pin SOP (MS8-8), Industrial, Pb-Free, Reel; Linear Technology Part Number: LTC6101; Manufacturer: Linear Technology; PartNumber: LTC6101AIMS8#TRPBF; Channels (#): 1; GBW (MHz) Typical: 0.2; Is (mA) Typical: 0.22; Vos (mV) Typical: 0.15; Vs Max (V): 60; Vs Min (V): 4; DatasheetVersion: Rev. H; PackageVersion: Rev G; PackageReference: LT-MS8-8; PackageDescription: 8-Lead Plastic Small Outline, Body 3.9 x 4.9 mm, Pitch 1.27 mm; Supplier 1: Digi-Key; Supplier Part Number 1: LTC6101AIMS8#TRPBF-ND; Packing: Reel; RoHS: Pb-Free; Type: CSA; Mounting Technology: Surface Mount; ComponentLink1Description: Manufacturer URL; ComponentLink1URL: http://www.linear.com/; ComponentLink2Description: Datasheet; ComponentLink2URL: http://cds.linear.com/docs/en/datasheet/6101fh.pdf; ComponentLink3Description: Package Specification; ComponentLink3URL: http://cds.linear.com/docs/en/packaging/05081610_G_SO8.pdf
footprint LT-MS8-8_N (SOP, 8-Leads, Body 3x3mm, Pitch 0.65mm, IPC Medium Density)
footprint LT-MS8-8_L (SOP, 8-Leads, Body 3x3mm, Pitch 0.65mm, IPC High Density)
footprint LT-MS8-8_M (SOP, 8-Leads, Body 3x3mm, Pitch 0.65mm, IPC Low Density)
part A pins: 1 -IN (in) "The internal sense ampli?er will drive IN- to the same  potential as IN+. A resistor (RIN) tied from V+ to IN- sets  the output current IOUT = VSENSE/RIN. VSENSE is the voltage  developed across the external RSENSE.", 4 OUT (oe) "Current Output. OUT will source a current that is  proportional to the sense voltage into an external resistor.", 5 V- (power) "Negative Supply (or Ground for Single-Supply  Operation).", 7 V+ (power) "Positive Supply Pin. Supply current is drawn through  this pin.  The circuit may be con? gured so that the  LTC6101 supply current is or is not monitored along  with the system load current. To monitor only system load (See Datasheet)", 8 +IN (in) "Must be tied to the system load end of the sense  resistor, either directly or through a resistor."
part B pins: 2 NC, 3 NC, 6 NC

## LTC6101AIS5
designator U?
Single Channel, High Voltage, High-Side Current Sense Operational Amplifier, 0.2 MHz Typical GBW, 4 to 60 V, 5-Pin SOT23 (S5-5), Industrial; Linear Technology Part Number: LTC6101; Manufacturer: Linear Technology; PartNumber: LTC6101AIS5; Channels (#): 1; GBW (MHz) Typical: 0.2; Is (mA) Typical: 0.22; Vos (mV) Typical: 0.15; Vs Max (V): 60; Vs Min (V): 4; DatasheetVersion: Rev. H; PackageReference: LT-S5-5-TSOT-23; PackageDescription: 5-Lead Plastic TSOT-23, Body 1.63 x 2.90 mm, Pitch 0.95 mm; Type: CSA; Mounting Technology: Surface Mount; Code_JEDEC: MO-193; ComponentLink1Description: Manufacturer URL; ComponentLink1URL: http://www.linear.com/; ComponentLink2Description: Datasheet; ComponentLink2URL: http://cds.linear.com/docs/en/datasheet/6101fh.pdf; ComponentLink3Description: Package Specification; ComponentLink3URL: http://cds.linear.com/docs/en/packaging/SOT_5_05-08-1635.pdf
footprint LT-S5-5-TSOT-23_N (SOT23, 5-Leads, Body 2.90x1.63mm, Pitch 0.95mm, IPC Medium Density)
footprint LT-S5-5-TSOT-23_L (SOT23, 5-Leads, Body 2.90x1.63mm, Pitch 0.95mm, IPC High Density)
footprint LT-S5-5-TSOT-23_M (SOT23, 5-Leads, Body 2.90x1.63mm, Pitch 0.95mm, IPC Low Density)
pins: 1 OUT (out) "Output.", 2 V- (power) "Negative Supply Voltage, Usually -5V.", 3 +IN (in) "Noninverting Input.", 4 -IN (in) "Inverting Input.", 5 V+ (power) "Positive Supply Voltage, Usually 5V."

## LTC6101AIS5#PBF
designator U?
Single Channel, High Voltage, High-Side Current Sense Operational Amplifier, 0.2 MHz Typical GBW, 4 to 60 V, 5-Pin SOT23 (S5-5), Industrial, Pb-Free; Linear Technology Part Number: LTC6101; Manufacturer: Linear Technology; PartNumber: LTC6101AIS5#PBF; Channels (#): 1; GBW (MHz) Typical: 0.2; Is (mA) Typical: 0.22; Vos (mV) Typical: 0.15; Vs Max (V): 60; Vs Min (V): 4; DatasheetVersion: Rev. H; PackageReference: LT-S5-5-TSOT-23; PackageDescription: 5-Lead Plastic TSOT-23, Body 1.63 x 2.90 mm, Pitch 0.95 mm; Supplier 1: Newark; Supplier Part Number 1: 78T3445; RoHS: Pb-Free; Type: CSA; Mounting Technology: Surface Mount; Code_JEDEC: MO-193; ComponentLink1Description: Manufacturer URL; ComponentLink1URL: http://www.linear.com/; ComponentLink2Description: Datasheet; ComponentLink2URL: http://cds.linear.com/docs/en/datasheet/6101fh.pdf; ComponentLink3Description: Package Specification; ComponentLink3URL: http://cds.linear.com/docs/en/packaging/SOT_5_05-08-1635.pdf
footprint LT-S5-5-TSOT-23_N (SOT23, 5-Leads, Body 2.90x1.63mm, Pitch 0.95mm, IPC Medium Density)
footprint LT-S5-5-TSOT-23_L (SOT23, 5-Leads, Body 2.90x1.63mm, Pitch 0.95mm, IPC High Density)
footprint LT-S5-5-TSOT-23_M (SOT23, 5-Leads, Body 2.90x1.63mm, Pitch 0.95mm, IPC Low Density)
pins: 1 OUT (out) "Output.", 2 V- (power) "Negative Supply Voltage, Usually -5V.", 3 +IN (in) "Noninverting Input.", 4 -IN (in) "Inverting Input.", 5 V+ (power) "Positive Supply Voltage, Usually 5V."

## LTC6101AIS5#TR
designator U?
Single Channel, High Voltage, High-Side Current Sense Operational Amplifier, 0.2 MHz Typical GBW, 4 to 60 V, 5-Pin SOT23 (S5-5), Industrial, Reel; Linear Technology Part Number: LTC6101; Manufacturer: Linear Technology; PartNumber: LTC6101AIS5#TR; Channels (#): 1; GBW (MHz) Typical: 0.2; Is (mA) Typical: 0.22; Vos (mV) Typical: 0.15; Vs Max (V): 60; Vs Min (V): 4; DatasheetVersion: Rev. H; PackageReference: LT-S5-5-TSOT-23; PackageDescription: 5-Lead Plastic TSOT-23, Body 1.63 x 2.90 mm, Pitch 0.95 mm; Supplier 1: Newark; Supplier Part Number 1: 56M9854; Packing: Reel; Type: CSA; Mounting Technology: Surface Mount; Code_JEDEC: MO-193; ComponentLink1Description: Manufacturer URL; ComponentLink1URL: http://www.linear.com/; ComponentLink2Description: Datasheet; ComponentLink2URL: http://cds.linear.com/docs/en/datasheet/6101fh.pdf; ComponentLink3Description: Package Specification; ComponentLink3URL: http://cds.linear.com/docs/en/packaging/SOT_5_05-08-1635.pdf
footprint LT-S5-5-TSOT-23_N (SOT23, 5-Leads, Body 2.90x1.63mm, Pitch 0.95mm, IPC Medium Density)
footprint LT-S5-5-TSOT-23_L (SOT23, 5-Leads, Body 2.90x1.63mm, Pitch 0.95mm, IPC High Density)
footprint LT-S5-5-TSOT-23_M (SOT23, 5-Leads, Body 2.90x1.63mm, Pitch 0.95mm, IPC Low Density)
pins: 1 OUT (out) "Output.", 2 V- (power) "Negative Supply Voltage, Usually -5V.", 3 +IN (in) "Noninverting Input.", 4 -IN (in) "Inverting Input.", 5 V+ (power) "Positive Supply Voltage, Usually 5V."